# Altium schematic symbol library daughterboard.SchLib: 8 symbols
Pins are listed as number, name and electrical type; pins without a type are passive.

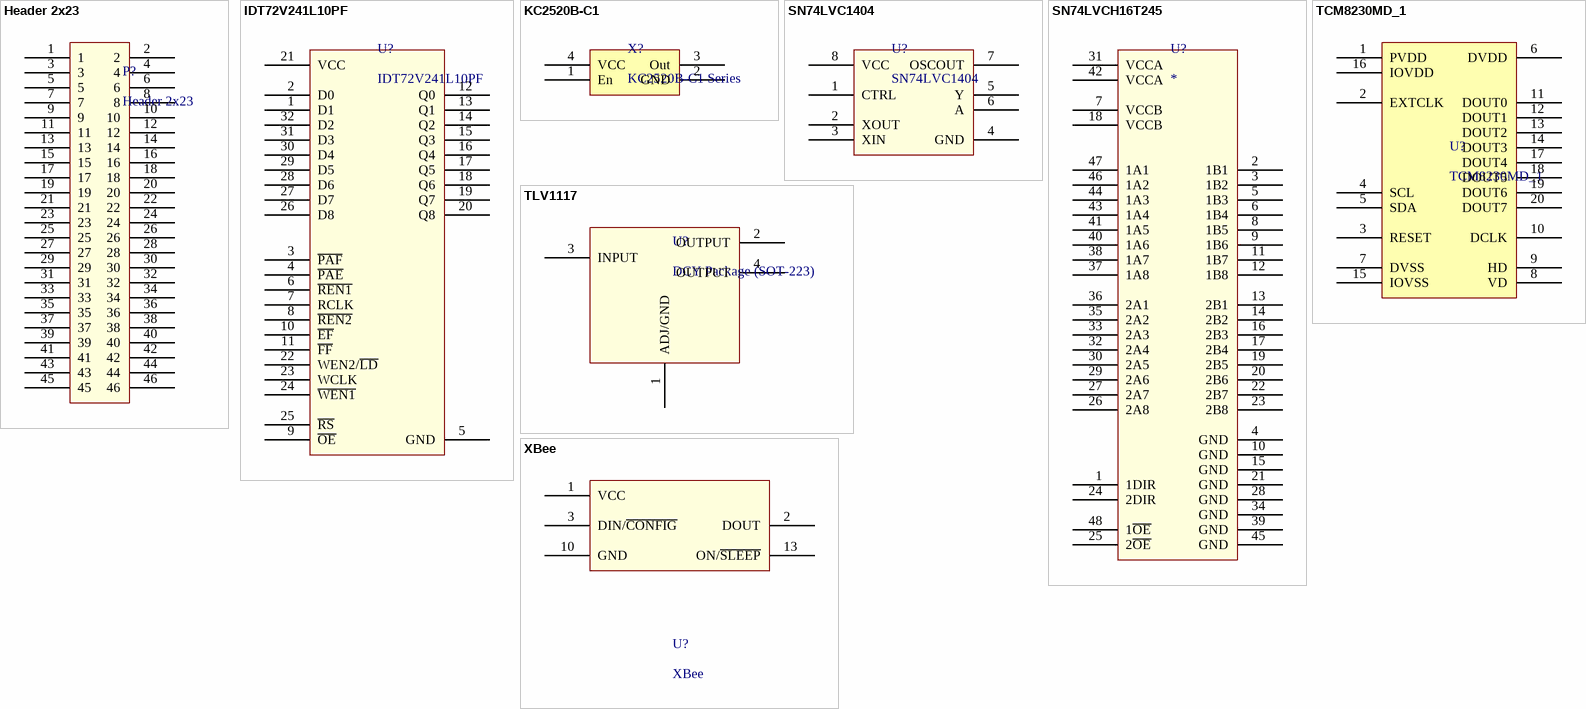
[diagram p0: symbols Header 2x23 to XBee]

## Header 2x23
designator P?
footprint HDR2X23 (Connector; Header; 25x2 Position)
pins: 1, 2, 3, 4, 5, 6, 7, 8, 9, 10, 11, 12, 13, 14, 15, 16, 17, 18, 19, 20, 21, 22, 23, 24, 25, 26, 27, 28, 29, 30, 31, 32, 33, 34, 35, 36, 37, 38, 39, 40, 41, 42, 43, 44, 45, 46

## IDT72V241L10PF
designator U?
36K (4K x 9) FIFO Buffer
footprint IDT72V241L10PF (TQFP, 32-Leads, Body 9.0x9.0mm (max), Pitch 0.80mm, IPC Medium Density)
pins: 1 D1, 2 D0, 3 ~{PAF}, 4 ~{PAE}, 5 GND, 6 ~{REN1}, 7 RCLK, 8 ~{REN2}, 9 ~{OE}, 10 ~{EF}, 11 ~{FF}, 12 Q0, 13 Q1, 14 Q2, 15 Q3, 16 Q4, 17 Q5, 18 Q6, 19 Q7, 20 Q8, 21 VCC, 22 WEN2/~{LD}, 23 WCLK, 24 ~{WEN1}, 25 ~{RS}, 26 D8, 27 D7, 28 D6, 29 D5, 30 D4, 31 D3, 32 D2

## KC2520B-C1
designator X?, comment KC2520B-C1 Series
Standard Oscillator
footprint KC2520B-C1 (Oscillator KYOCERA)
pins: 1 En, 2 GND, 3 Out, 4 VCC

## SN74LVC1404
designator U?
Oscillator driver.
footprint SN74LVC1404 (TSOP, 8-Leads, Body 3.2x2.9mm (max), Pitch 0.65mm, IPC Medium Density)
pins: 1 CTRL, 2 XOUT, 3 XIN, 4 GND, 5 Y, 6 A, 7 OSCOUT, 8 VCC

## SN74LVCH16T245
designator U?
16-bit bus transceiver with voltage regulation.
footprint SN74LVCH16T245
pins: 1 1DIR, 2 1B1, 3 1B2, 4 GND, 5 1B3, 6 1B4, 7 VCCB, 8 1B5, 9 1B6, 10 GND, 11 1B7, 12 1B8, 13 2B1, 14 2B2, 15 GND, 16 2B3, 17 2B4, 18 VCCB, 19 2B5, 20 2B6, 21 GND, 22 2B7, 23 2B8, 24 2DIR, 25 2~{OE}, 26 2A8, 27 2A7, 28 GND, 29 2A6, 30 2A5, 31 VCCA, 32 2A4, 33 2A3, 34 GND, 35 2A2, 36 2A1, 37 1A8, 38 1A7, 39 GND, 40 1A6, 41 1A5, 42 VCCA, 43 1A4, 44 1A3, 45 GND, 46 1A2, 47 1A1, 48 1~{OE}

## TCM8230MD_1
designator U?
VGA CAMERA MODULE 640x480
footprint TCM8230MD (VGA CAMERA MODULE 640x480)
pins: 1 PVDD, 2 EXTCLK, 3 RESET, 4 SCL, 5 SDA, 6 DVDD, 7 DVSS, 8 VD, 9 HD, 10 DCLK, 11 DOUT0, 12 DOUT1, 13 DOUT2, 14 DOUT3, 15 IOVSS, 16 IOVDD, 17 DOUT4, 18 DOUT5, 19 DOUT6, 20 DOUT7

## TLV1117
designator U?, comment DCY Package (SOT-223)
footprint TLV1117-DCY (SOT223, 4-Leads, Body 6.7x7.3mm (max), Pitch 2.30mm, IPC Medium Density)
pins: 1 ADJ/GND, 2 OUTPUT, 3 INPUT, 4 OUTPUT

## XBee
designator U?
XBee wireless transmitter/reveiver
footprint XBee
pins: 1 VCC, 2 DOUT, 3 DIN/~{CONFIG}, 4 D08 hidden, 5 ~{RESET} hidden, 6 PWM0/RSSI hidden, 7 PWM1 hidden, 8 [reserved] hidden, 9 ~{DTR}/SLEEP_RQ/DI8 hidden, 10 GND, 11 AD4/DIO4 hidden, 12 ~{CTS}/DIO7 hidden, 13 ON/~{SLEEP}, 14 VREF hidden, 15 Associate/AD5/DIO5 hidden, 16 ~{RTS}/AD6/DIO6 hidden, 17 AD3/DIO3 hidden, 18 AD2/DIO2 hidden, 19 AD1/DIO1 hidden, 20 AD0/DIO0 hidden